# Altium integrated library 6-1623927-3.IntLib: 1 symbol
Pins are listed as number, name and electrical type; pins without a type are passive.

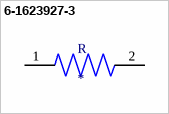
[diagram p0: symbol 6-1623927-3]

## 6-1623927-3
designator R
Carbon Film Resistors - Through Hole CFR16 5% 2K2; MF: TE Connectivity; MP: 6-1623927-3; SnapEDA_Link: https://www.snapeda.com/parts/6-1623927-3/TE%20Connectivity/view-part/4788520/?ref=snap; Price: None; Availability: Unavailable; Value: *; Package: None; TE_purchase_URL: https://www.te.com/usa-en/product-6-1623927-3.html?te_bu=Cor&te_type=disp&te_campaign=seda_glo_cor-seda-global-disp-prtnr-fy19-seda-model-bom-cta_sma-317_1&elqCampaignId=32493
footprint RESAD700W45L350D185
pins: 1, 2